# Altium footprint library elevate_lib.PcbLib: 11 footprints
Each footprint in its own frame and in the unit in brackets; x right, y up, seen from the top. Pads: shape width x height; smd on the part's side, far side on the other; paste and mask are expansions set on the pad; w line width, h text height; cw(c..) or ccw(c..) is an arc to the next point about the centre after c.
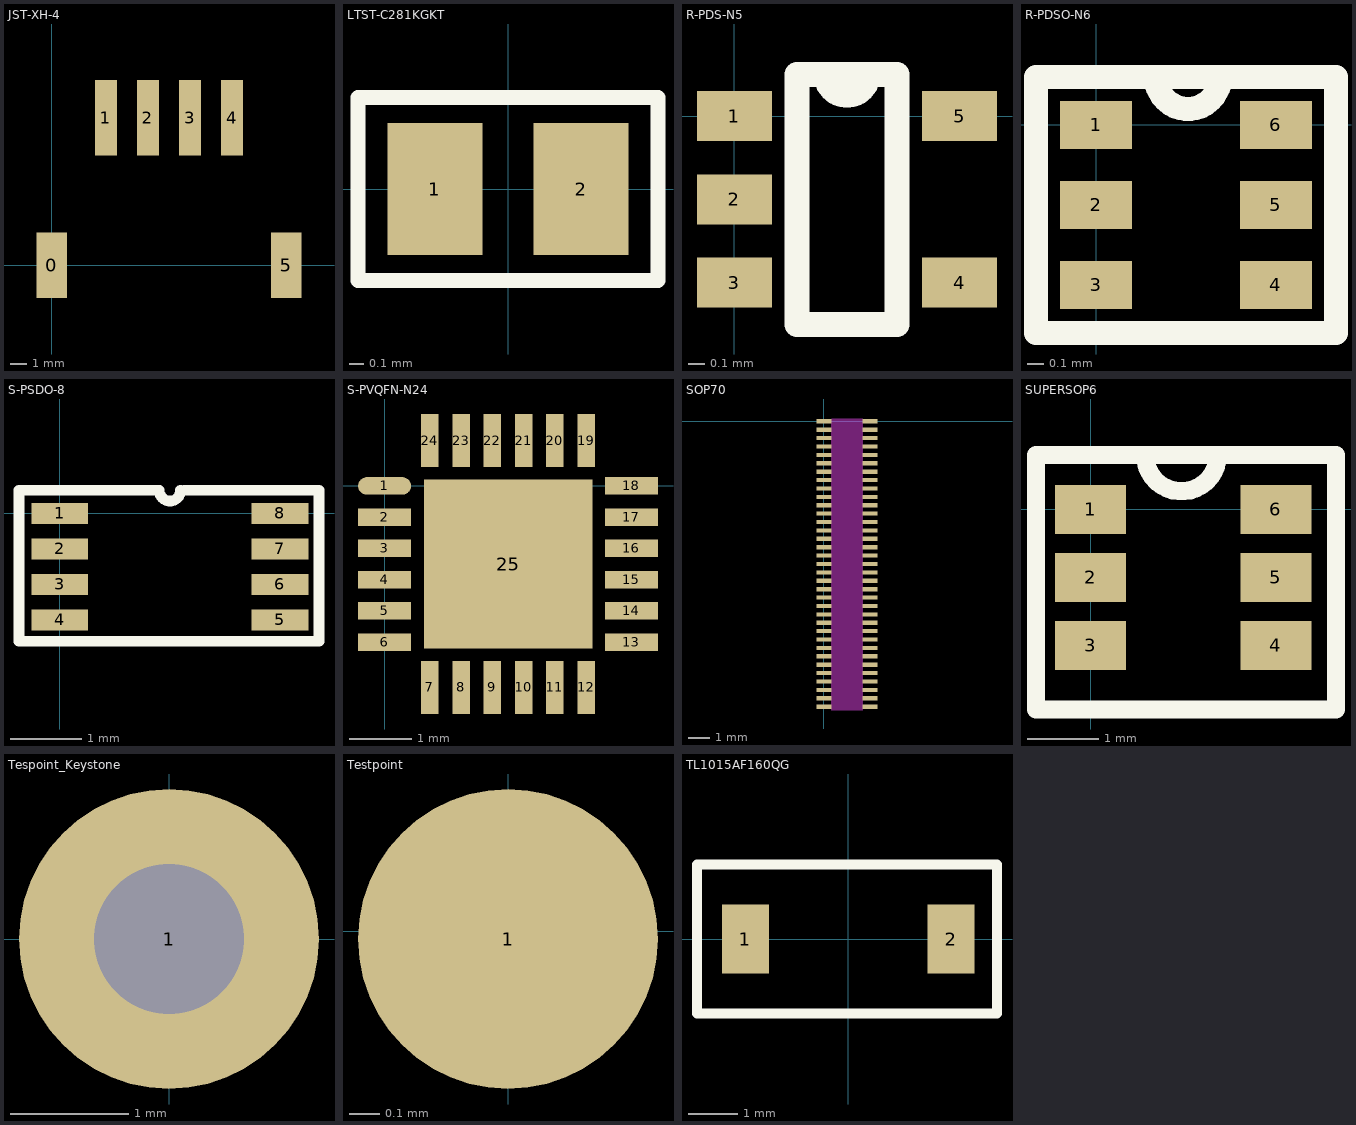
[diagram p0: the footprints below, top view; thin cyan lines are the x and y axes]

## JST-XH-4 [mm]
pads (6):
  rect 1.8x3.9 smd: 0(0,0) 5(13.9,0)
  rect 1.3x4.5 smd: 1(3.2,8.75) 2(5.7,8.75) 3(8.2,8.75) 4(10.7,8.75)

## LTST-C281KGKT [mm]
pads (2):
  rect 0.65x0.9 smd: 1(-0.5,0) 2(0.5,0)
Top Overlay:
  lines w0.1: -1.025,-0.625 1.025,-0.625 1.025,0.625 -1.025,0.625 -1.025,0.15 -1.025,-0.625

## R-PDS-N5 [mm]
pads (5):
  rect 0.45x0.3 smd mask+0.05: 1(0,0) 2(0,-0.5) 3(0,-1) 4(1.35,-1) 5(1.35,0)
Top Overlay:
  lines w0.15: 0.375,-1.25 0.375,0.25 0.8,0.25 cw(c0.675,0.25) 0.55,0.25 0.975,0.25 0.975,-1.25 0.375,-1.25

## R-PDSO-N6 [mm]
pads (6):
  rect 0.45x0.3 smd mask+0.05: 1(0,0) 2(0,-0.5) 3(0,-1) 4(1.125,-1) 5(1.125,-0.5) 6(1.125,0)
Top Overlay:
  lines w0.15: 0.375,0.3 ccw(c0.575,0.3) 0.775,0.3 ; -0.375,-1.3 1.5,-1.3 1.5,0.3 0.8,0.3 -0.375,0.3 -0.375,-1.3

## S-PSDO-8 [mm]
pads (8):
  rect 0.8x0.3 smd mask+0.05: 1(0,0) 2(0,-0.5) 3(0,-1) 4(0,-1.5) 5(3.1,-1.5) 6(3.1,-1) 7(3.1,-0.5) 8(3.1,0)
Top Overlay:
  lines w0.15: 1.35,0.325 -0.575,0.325 -0.575,-1.8 3.65,-1.8 3.65,0.325 1.75,0.325 ; 1.4,0.325 ccw(c1.55,0.325) 1.7,0.325

## S-PVQFN-N24 [mm]
pads (25):
  oval 0.85x0.28 smd mask+0.07: 1(0,0)
  rect 0.85x0.28 smd mask+0.07: 2(0,-0.5) 3(0,-1) 4(0,-1.5) 5(0,-2) 6(0,-2.5) 13(3.95,-2.5) 14(3.95,-2) 15(3.95,-1.5) 16(3.95,-1) 17(3.95,-0.5) 18(3.95,0)
  rect 0.28x0.85 smd mask+0.07: 7(0.725,-3.225) 8(1.225,-3.225) 9(1.725,-3.225) 10(2.225,-3.225) 11(2.725,-3.225) 12(3.225,-3.225) 19(3.225,0.725) 20(2.725,0.725) 21(2.225,0.725) 22(1.725,0.725) 23(1.225,0.725) 24(0.725,0.725)
  rect 2.7x2.7 smd mask+0.07: 25(1.98,-1.25)

## SOP70 [mm]
pads (70):
  rect 0.7x0.2 smd mask+0.01: 1(0,0) 2(0,-0.4) 3(0,-0.8) 4(0,-1.2) 5(0,-1.6) 6(0,-2) 7(0,-2.4) 8(0,-2.8) 9(0,-3.2) 10(0,-3.6) 11(0,-4) 12(0,-4.4) 13(0,-4.8) 14(0,-5.2) 15(0,-5.6) 16(0,-6) 17(0,-6.4) 18(0,-6.8) 19(0,-7.2) 20(0,-7.6) 21(0,-8) 22(0,-8.4) 23(0,-8.8) 24(0,-9.2) 25(0,-9.6) 26(0,-10) 27(0,-10.4) 28(0,-10.8) 29(0,-11.2) 30(0,-11.6) 31(0,-12) 32(0,-12.4) 33(0,-12.8) 34(0,-13.2) 35(0,-13.6) 36(2.2,-13.6) 37(2.2,-13.2) 38(2.2,-12.8) 39(2.2,-12.4) 40(2.2,-12) 41(2.2,-11.6) 42(2.2,-11.2) 43(2.2,-10.8) 44(2.2,-10.4) 45(2.2,-10) 46(2.2,-9.6) 47(2.2,-9.2) 48(2.2,-8.8) 49(2.2,-8.4) 50(2.2,-8) 51(2.2,-7.6) 52(2.2,-7.2) 53(2.2,-6.8) 54(2.2,-6.4) 55(2.2,-6) 56(2.2,-5.6) 57(2.2,-5.2) 58(2.2,-4.8) 59(2.2,-4.4) 60(2.2,-4) 61(2.2,-3.6) 62(2.2,-3.2) 63(2.2,-2.8) 64(2.2,-2.4) 65(2.2,-2) 66(2.2,-1.6) 67(2.2,-1.2) 68(2.2,-0.8) 69(2.2,-0.4) 70(2.2,0)
Keep-Out Layer:
  region: 0.35,0.1 0.375,0.125 1.85,0.125 1.85,-13.775 0.35,-13.775

## SUPERSOP6 [mm]
height 1.12
pads (6):
  rect 0.99x0.69 smd: 1(0,0) 2(0,-0.95) 3(0,-1.9) 4(2.59,-1.9) 5(2.59,-0.95) 6(2.59,0)
Top Overlay:
  lines w0.254: 0.762,0.762 ccw(c1.27,0.762) 1.778,0.762 ; -0.762,-2.794 3.429,-2.794 3.429,0.762 -0.762,0.762 -0.762,-2.794

## Tespoint_Keystone [mm]
height 4.57
pads (1):
  round 2.54 hole 1.27 unplated: 1(0,0)

## Testpoint [mm]
pads (1):
  round 1 smd mask+0: 1(0,-0.025)

## TL1015AF160QG [mm] "Simple switch"
height 2
pads (2):
  rect 0.95x1.4 smd: 1(-2.075,0) 2(2.075,0)
Top Overlay:
  lines w0.2: -3.05,-1.5 -3.05,0 -3.05,1.5 3,1.5 3,-1.5 -3.05,-1.5